# Altium integrated library Linear Technology Power Management Switching Regulator LTC1174-LTC3901.IntLib: 2647 symbols (part 157 of 364)
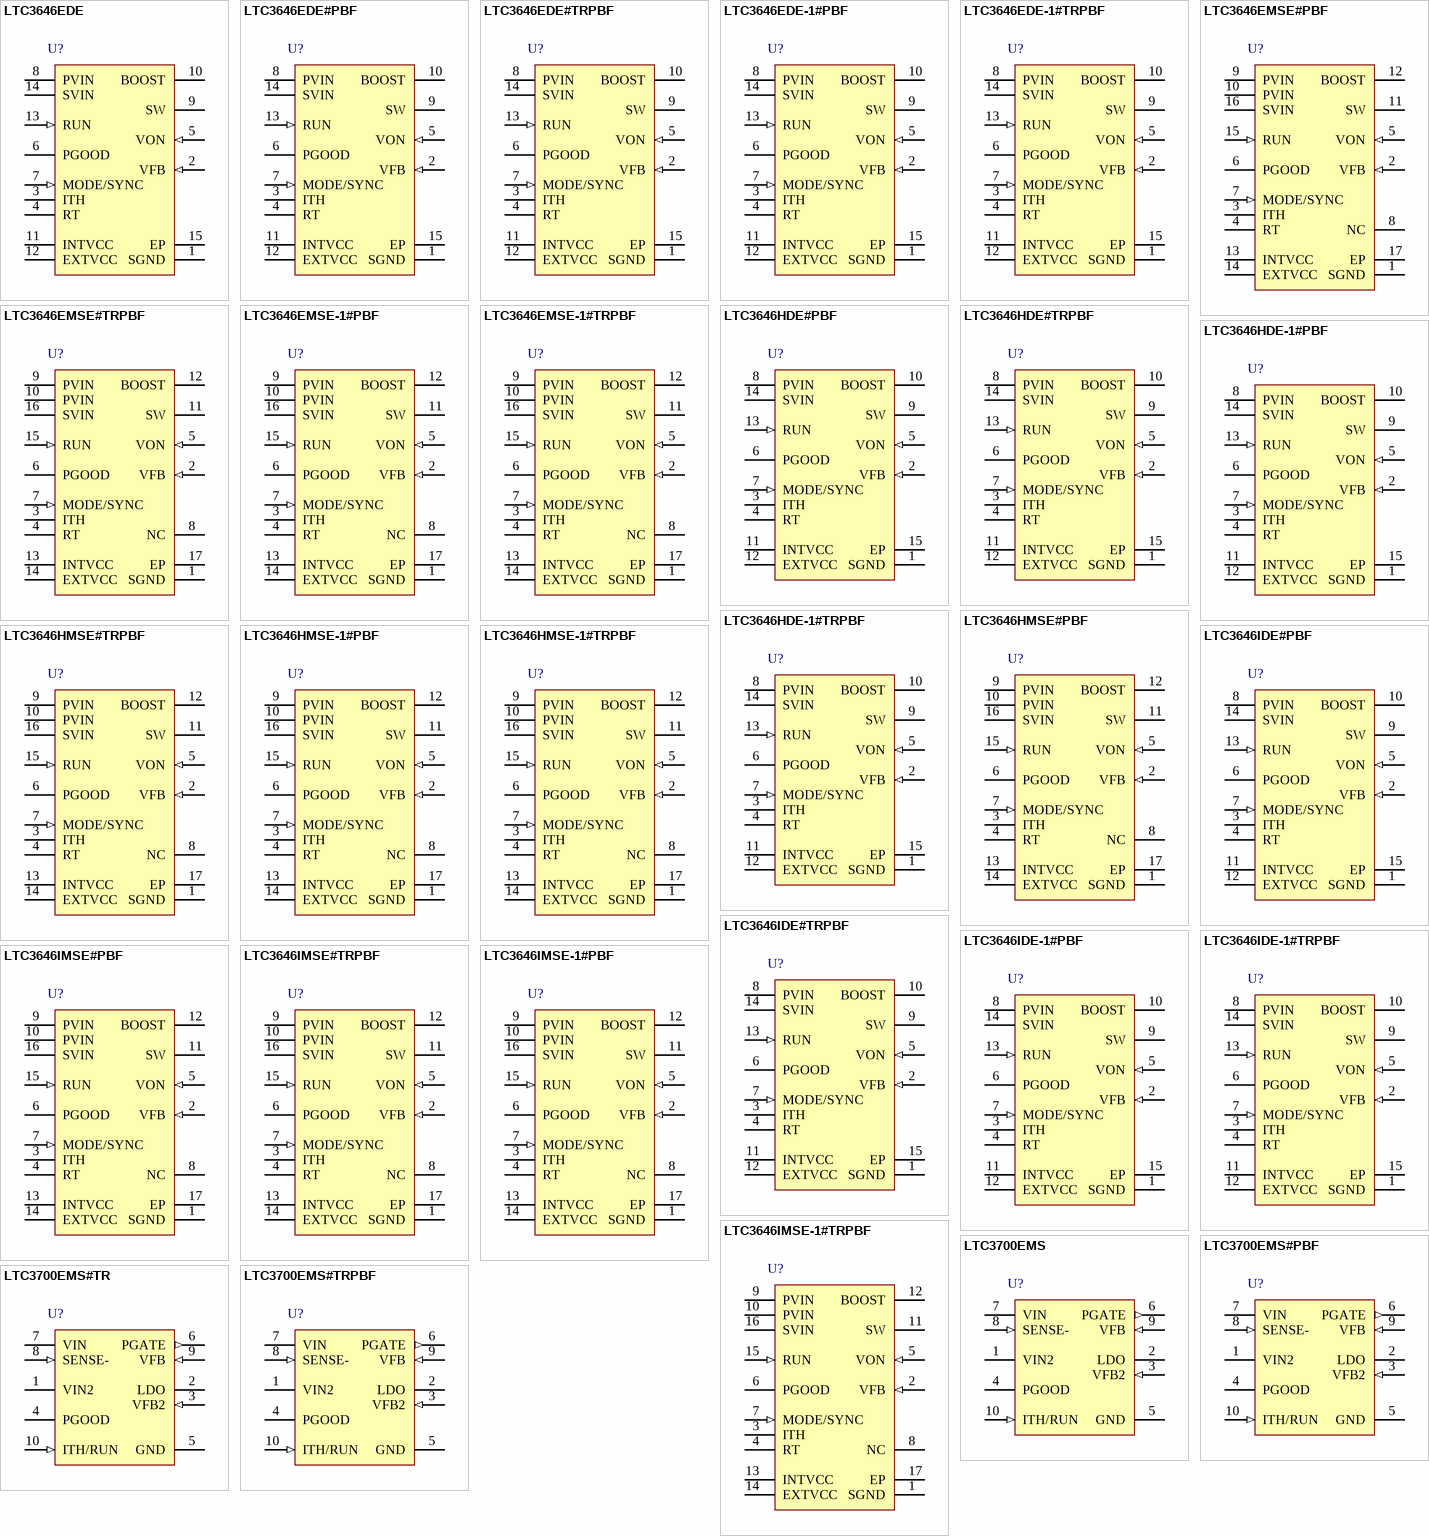
[diagram p195: symbols LTC3646EDE to LTC3700EMS#TRPBF]

## LTC3700EMS
designator U?
Controller with LDO, 10-pin SOP (MS-10), -40 to 85 degC; Manufacturer: Linear Technology; PartNumber: LTC3700EMS; Number of Outputs: 2; PackageVersion: Rev. E, 06/2010; PackageReference: MS-10; PackageDescription: 10-Pin Plastic MSOP, Body 3 x 3 mm, Pitch 0.5 mm; Supplier 1: Digi-Key; Supplier Part Number 1: LTC3700EMS-ND; RoHS: FALSE; Mounting Technology: Surface Mount; ComponentLink1Description: Manufacturer URL; ComponentLink1URL: http://www.linear.com/; ComponentLink2Description: Datasheet; ComponentLink2URL: http://cds.linear.com/docs/en/datasheet/3700f.pdf; ComponentLink3Description: Package Specification; ComponentLink3URL: http://cds.linear.com/docs/en/packaging/05081661_F_MS.pdf
footprint LT-MS-10_N (SOP, 10-Leads, Body 3.1x3.1mm, Pitch 0.5mm, IPC Medium Density)
footprint LT-MS-10_L (SOP, 10-Leads, Body 3.1x3.1mm, Pitch 0.5mm, IPC High Density)
footprint LT-MS-10_M (SOP, 10-Leads, Body 3.1x3.1mm, Pitch 0.5mm, IPC Low Density)
pins: 1 VIN2 (power) "LDO Input Supply Pin. Must be closely decoupled to GND (Pin 5).", 2 LDO (power) "LDO Output Pin. Must be closely decoupled to GND (Pin 5) with a low ESR ceramic capacitor >=2.2uF.", 3 VFB2 (in) "LDO Feedback Voltage. Receives the feedback voltage from an external resistor divider between LDO (Pin 2) and GND (Pin 5).", 4 PGOOD (hiz) "Open-Drain Power Good Output. This pin will pull to ground if either voltage output of the buck or the LDO [sensed at VFB (Pin 9) and VFB2 (Pin 3), respectively] is out of range. When both voltage outputs are valid, this pin (See Datasheet)", 5 GND (power) "Common Ground Pin for Both Buck and LDO.", 6 PGATE (out) "Gate Drive for Buck’s External P-Channel MOSFET. This pin swings from 0V to VIN.", 7 VIN (power) "Buck Input Supply Pin. Must be closely decoupled to GND (Pin 5).", 8 SENSE- (in) "The Negative Input to the Current Comparator of the Buck. Monitors switch current of external P-Channel MOSFET.", 9 VFB (in) "Buck Feedback Voltage. Receives the feedback voltage from an external resistor divider between buck output and GND (Pin 5).", 10 ITH/RUN (in)

## LTC3700EMS#PBF
designator U?
Controller with LDO, 10-pin SOP (MS-10), -40 to 85 degC, Pb-Free; Manufacturer: Linear Technology; PartNumber: LTC3700EMS#PBF; Number of Outputs: 2; PackageVersion: Rev. E, 06/2010; PackageReference: MS-10; PackageDescription: 10-Pin Plastic MSOP, Body 3 x 3 mm, Pitch 0.5 mm; Supplier 1: Digi-Key; Supplier Part Number 1: LTC3700EMS#PBF-ND; Supplier 2: Farnell; Supplier Part Number 2: 1273946; Supplier 3: Newark; Supplier Part Number 3: 56M8033; RoHS: TRUE; Mounting Technology: Surface Mount; ComponentLink1Description: Manufacturer URL; ComponentLink1URL: http://www.linear.com/; ComponentLink2Description: Datasheet; ComponentLink2URL: http://cds.linear.com/docs/en/datasheet/3700f.pdf; ComponentLink3Description: Package Specification; ComponentLink3URL: http://cds.linear.com/docs/en/packaging/05081661_F_MS.pdf
footprint LT-MS-10_N (SOP, 10-Leads, Body 3.1x3.1mm, Pitch 0.5mm, IPC Medium Density)
footprint LT-MS-10_L (SOP, 10-Leads, Body 3.1x3.1mm, Pitch 0.5mm, IPC High Density)
footprint LT-MS-10_M (SOP, 10-Leads, Body 3.1x3.1mm, Pitch 0.5mm, IPC Low Density)
pins: 1 VIN2 (power) "LDO Input Supply Pin. Must be closely decoupled to GND (Pin 5).", 2 LDO (power) "LDO Output Pin. Must be closely decoupled to GND (Pin 5) with a low ESR ceramic capacitor >=2.2uF.", 3 VFB2 (in) "LDO Feedback Voltage. Receives the feedback voltage from an external resistor divider between LDO (Pin 2) and GND (Pin 5).", 4 PGOOD (hiz) "Open-Drain Power Good Output. This pin will pull to ground if either voltage output of the buck or the LDO [sensed at VFB (Pin 9) and VFB2 (Pin 3), respectively] is out of range. When both voltage outputs are valid, this pin (See Datasheet)", 5 GND (power) "Common Ground Pin for Both Buck and LDO.", 6 PGATE (out) "Gate Drive for Buck’s External P-Channel MOSFET. This pin swings from 0V to VIN.", 7 VIN (power) "Buck Input Supply Pin. Must be closely decoupled to GND (Pin 5).", 8 SENSE- (in) "The Negative Input to the Current Comparator of the Buck. Monitors switch current of external P-Channel MOSFET.", 9 VFB (in) "Buck Feedback Voltage. Receives the feedback voltage from an external resistor divider between buck output and GND (Pin 5).", 10 ITH/RUN (in)

## LTC3700EMS#TR
designator U?
Controller with LDO, 10-pin SOP (MS-10), -40 to 85 degC, Tape and Reel; Manufacturer: Linear Technology; PartNumber: LTC3700EMS#TR; Number of Outputs: 2; PackageVersion: Rev. E, 06/2010; PackageReference: MS-10; PackageDescription: 10-Pin Plastic MSOP, Body 3 x 3 mm, Pitch 0.5 mm; Supplier 1: Digi-Key; Supplier Part Number 1: LTC3700EMSTR-ND; Packing: Tape and Reel; RoHS: FALSE; Mounting Technology: Surface Mount; ComponentLink1Description: Manufacturer URL; ComponentLink1URL: http://www.linear.com/; ComponentLink2Description: Datasheet; ComponentLink2URL: http://cds.linear.com/docs/en/datasheet/3700f.pdf; ComponentLink3Description: Package Specification; ComponentLink3URL: http://cds.linear.com/docs/en/packaging/05081661_F_MS.pdf
footprint LT-MS-10_N (SOP, 10-Leads, Body 3.1x3.1mm, Pitch 0.5mm, IPC Medium Density)
footprint LT-MS-10_L (SOP, 10-Leads, Body 3.1x3.1mm, Pitch 0.5mm, IPC High Density)
footprint LT-MS-10_M (SOP, 10-Leads, Body 3.1x3.1mm, Pitch 0.5mm, IPC Low Density)
pins: 1 VIN2 (power) "LDO Input Supply Pin. Must be closely decoupled to GND (Pin 5).", 2 LDO (power) "LDO Output Pin. Must be closely decoupled to GND (Pin 5) with a low ESR ceramic capacitor >=2.2uF.", 3 VFB2 (in) "LDO Feedback Voltage. Receives the feedback voltage from an external resistor divider between LDO (Pin 2) and GND (Pin 5).", 4 PGOOD (hiz) "Open-Drain Power Good Output. This pin will pull to ground if either voltage output of the buck or the LDO [sensed at VFB (Pin 9) and VFB2 (Pin 3), respectively] is out of range. When both voltage outputs are valid, this pin (See Datasheet)", 5 GND (power) "Common Ground Pin for Both Buck and LDO.", 6 PGATE (out) "Gate Drive for Buck’s External P-Channel MOSFET. This pin swings from 0V to VIN.", 7 VIN (power) "Buck Input Supply Pin. Must be closely decoupled to GND (Pin 5).", 8 SENSE- (in) "The Negative Input to the Current Comparator of the Buck. Monitors switch current of external P-Channel MOSFET.", 9 VFB (in) "Buck Feedback Voltage. Receives the feedback voltage from an external resistor divider between buck output and GND (Pin 5).", 10 ITH/RUN (in)

## LTC3700EMS#TRPBF
designator U?
Controller with LDO, 10-pin SOP (MS-10), -40 to 85 degC, Pb-Free, Tape and Reel; Manufacturer: Linear Technology; PartNumber: LTC3700EMS#TRPBF; Number of Outputs: 2; PackageVersion: Rev. E, 06/2010; PackageReference: MS-10; PackageDescription: 10-Pin Plastic MSOP, Body 3 x 3 mm, Pitch 0.5 mm; Supplier 1: Digi-Key; Supplier Part Number 1: LTC3700EMS#TRPBF-ND; Packing: Tape and Reel; RoHS: TRUE; Mounting Technology: Surface Mount; ComponentLink1Description: Manufacturer URL; ComponentLink1URL: http://www.linear.com/; ComponentLink2Description: Datasheet; ComponentLink2URL: http://cds.linear.com/docs/en/datasheet/3700f.pdf; ComponentLink3Description: Package Specification; ComponentLink3URL: http://cds.linear.com/docs/en/packaging/05081661_F_MS.pdf
footprint LT-MS-10_N (SOP, 10-Leads, Body 3.1x3.1mm, Pitch 0.5mm, IPC Medium Density)
footprint LT-MS-10_L (SOP, 10-Leads, Body 3.1x3.1mm, Pitch 0.5mm, IPC High Density)
footprint LT-MS-10_M (SOP, 10-Leads, Body 3.1x3.1mm, Pitch 0.5mm, IPC Low Density)
pins: 1 VIN2 (power) "LDO Input Supply Pin. Must be closely decoupled to GND (Pin 5).", 2 LDO (power) "LDO Output Pin. Must be closely decoupled to GND (Pin 5) with a low ESR ceramic capacitor >=2.2uF.", 3 VFB2 (in) "LDO Feedback Voltage. Receives the feedback voltage from an external resistor divider between LDO (Pin 2) and GND (Pin 5).", 4 PGOOD (hiz) "Open-Drain Power Good Output. This pin will pull to ground if either voltage output of the buck or the LDO [sensed at VFB (Pin 9) and VFB2 (Pin 3), respectively] is out of range. When both voltage outputs are valid, this pin (See Datasheet)", 5 GND (power) "Common Ground Pin for Both Buck and LDO.", 6 PGATE (out) "Gate Drive for Buck’s External P-Channel MOSFET. This pin swings from 0V to VIN.", 7 VIN (power) "Buck Input Supply Pin. Must be closely decoupled to GND (Pin 5).", 8 SENSE- (in) "The Negative Input to the Current Comparator of the Buck. Monitors switch current of external P-Channel MOSFET.", 9 VFB (in) "Buck Feedback Voltage. Receives the feedback voltage from an external resistor divider between buck output and GND (Pin 5).", 10 ITH/RUN (in)

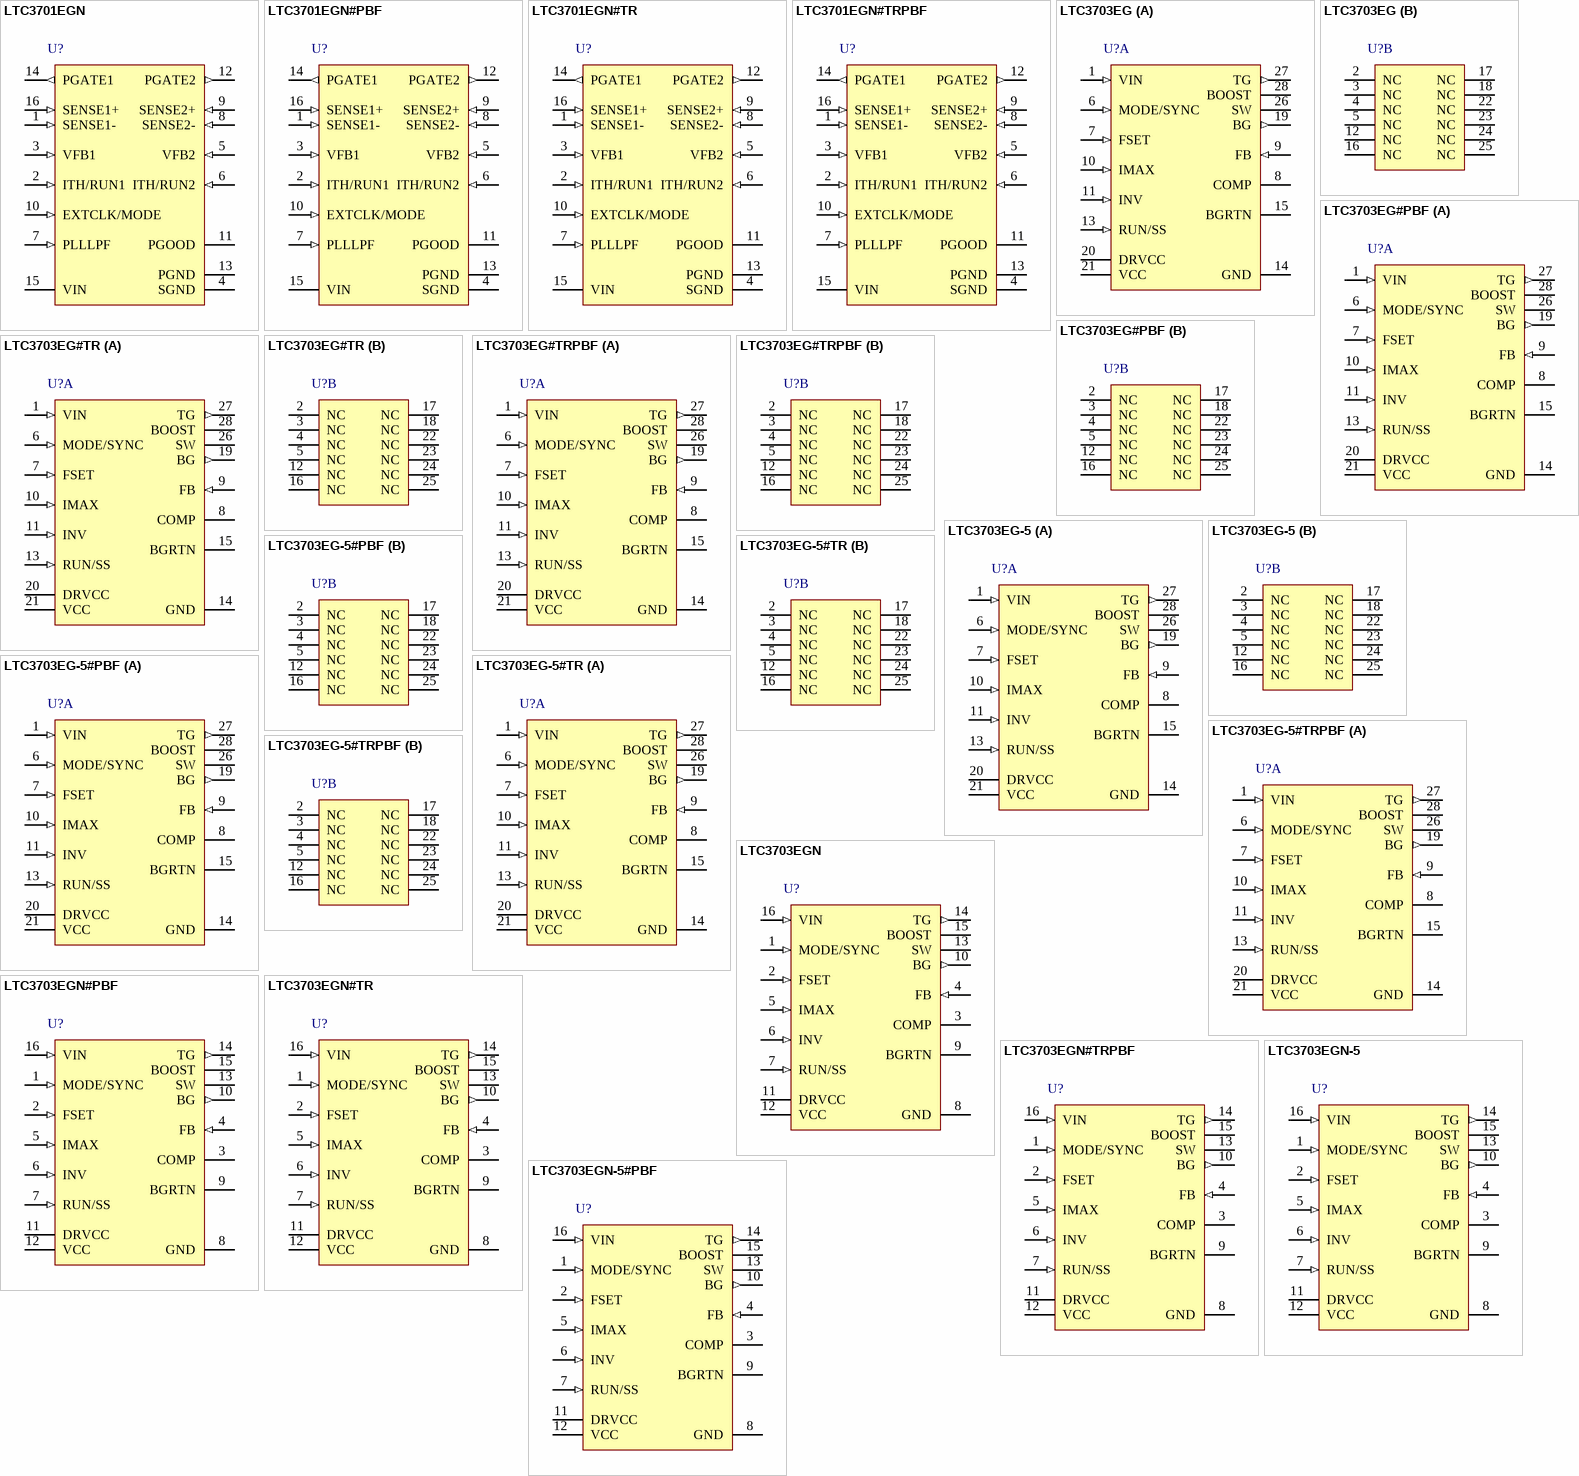
[diagram p50: symbols LTC3701EGN to LTC3703EGN-5#PBF]

## LTC3701EGN
designator U?
2-Phase, Low Input Voltage, Dual Step-Down DC/DC Controller, 16-pin SOP (GN-16), -40 to 85 degC; Manufacturer: Linear Technology; PartNumber: LTC3701EGN; Number of Outputs: 2; PackageVersion: Rev. B, 03/2012; PackageReference: GN-16; PackageDescription: 16-Pin Plastic SSOP, Body 4.9 x 3.9 mm, Pitch 0.635 mm; Supplier 1: Digi-Key; Supplier Part Number 1: LTC3701EGN-ND; Supplier 2: Newark; Supplier Part Number 2: 56M8036; RoHS: FALSE; Mounting Technology: Surface Mount; ComponentLink1Description: Manufacturer URL; ComponentLink1URL: http://www.linear.com/; ComponentLink2Description: Datasheet; ComponentLink2URL: http://cds.linear.com/docs/en/datasheet/3701fa.pdf; ComponentLink3Description: Package Specification; ComponentLink3URL: http://cds.linear.com/docs/en/packaging/05081641_B_GN16.pdf
footprint LT-GN-16_N (SOP, 16-Leads, Body 5x4mm, Pitch 0.635mm, IPC Medium Density)
footprint LT-GN-16_L (SOP, 16-Leads, Body 5x4mm, Pitch 0.635mm, IPC High Density)
footprint LT-GN-16_M (SOP, 16-Leads, Body 5x4mm, Pitch 0.635mm, IPC Low Density)
pins: 1 SENSE1- (in) "The (-) Inputs to the Differential Current Comparators.", 2 ITH/RUN1 (in) "These pins each serve two functions. Each pin serves as the error amplifier compensation point as well as the run control input for the respective controller. Forcing one pin below 0.35V causes the functions associated with (See Datasheet)", 3 VFB1 (in) "Each receives the remotely sensed feedback voltage for each controller from an external resistive divider across the output.", 4 SGND (power) "Signal Ground.", 5 VFB2 (in) "Each receives the remotely sensed feedback voltage for each controller from an external resistive divider across the output.", 6 ITH/RUN2 (in) "These pins each serve two functions. Each pin serves as the error amplifier compensation point as well as the run control input for the respective controller. Forcing one pin below 0.35V causes the functions associated with (See Datasheet)", 7 PLLLPF (in) "Serves as the lowpass filter point for the PLL and as the voltage control input to the internal oscillator. Normally, a series RC is connected between this pin and ground when synchronizing to an external clock. Nominal (See Datasheet)", 8 SENSE2- (in) "The (-) Inputs to the Differential Current Comparators.", 9 SENSE2+ (in) "The (+) Inputs to the Differential Current Comparators. These pins also power the gate drivers.", 10 EXTCLK/MODE (in) "External Clock Input. Applying a clock to this pin causes the internal oscillator to phaselock to the external clock (nominal lock frequency range between 300kHz and 750kHz). This also disables Burst Mode operation but (See Datasheet)", 11 PGOOD (oc) "Power Good Output Voltage Monitor Open-Drain Logic Output. This pin is pulled to ground when the voltage on either feedback pin (VFB1, VFB2) is not within +/-8% of its nominal set point. PGOOD is pulled low when channel 1 or (See Datasheet)", 12 PGATE2 (out) "Gate Drivers for the External P-Channel MOSFETs. These pins swing from 0 to SENSE+ (PVIN).", 13 PGND (power) "Ground Pin for Gate Drivers.", 14 PGATE1 (out) "Gate Drivers for the External P-Channel MOSFETs. These pins swing from 0 to SENSE+ (PVIN).", 15 VIN (power) "Chip Signal Power Supply Input. This pin powers the entire chip except for the gate drivers.", 16 SENSE1+ (in) "The (+) Inputs to the Differential Current Comparators. These pins also power the gate drivers."

## LTC3701EGN#PBF
designator U?
2-Phase, Low Input Voltage, Dual Step-Down DC/DC Controller, 16-pin SOP (GN-16), -40 to 85 degC, Pb-Free; Manufacturer: Linear Technology; PartNumber: LTC3701EGN#PBF; Number of Outputs: 2; PackageVersion: Rev. B, 03/2012; PackageReference: GN-16; PackageDescription: 16-Pin Plastic SSOP, Body 4.9 x 3.9 mm, Pitch 0.635 mm; Supplier 1: Digi-Key; Supplier Part Number 1: LTC3701EGN#PBF-ND; Supplier 2: Newark; Supplier Part Number 2: 56M8037; RoHS: TRUE; Mounting Technology: Surface Mount; ComponentLink1Description: Manufacturer URL; ComponentLink1URL: http://www.linear.com/; ComponentLink2Description: Datasheet; ComponentLink2URL: http://cds.linear.com/docs/en/datasheet/3701fa.pdf; ComponentLink3Description: Package Specification; ComponentLink3URL: http://cds.linear.com/docs/en/packaging/05081641_B_GN16.pdf
footprint LT-GN-16_N (SOP, 16-Leads, Body 5x4mm, Pitch 0.635mm, IPC Medium Density)
footprint LT-GN-16_L (SOP, 16-Leads, Body 5x4mm, Pitch 0.635mm, IPC High Density)
footprint LT-GN-16_M (SOP, 16-Leads, Body 5x4mm, Pitch 0.635mm, IPC Low Density)
pins: 1 SENSE1- (in) "The (-) Inputs to the Differential Current Comparators.", 2 ITH/RUN1 (in) "These pins each serve two functions. Each pin serves as the error amplifier compensation point as well as the run control input for the respective controller. Forcing one pin below 0.35V causes the functions associated with (See Datasheet)", 3 VFB1 (in) "Each receives the remotely sensed feedback voltage for each controller from an external resistive divider across the output.", 4 SGND (power) "Signal Ground.", 5 VFB2 (in) "Each receives the remotely sensed feedback voltage for each controller from an external resistive divider across the output.", 6 ITH/RUN2 (in) "These pins each serve two functions. Each pin serves as the error amplifier compensation point as well as the run control input for the respective controller. Forcing one pin below 0.35V causes the functions associated with (See Datasheet)", 7 PLLLPF (in) "Serves as the lowpass filter point for the PLL and as the voltage control input to the internal oscillator. Normally, a series RC is connected between this pin and ground when synchronizing to an external clock. Nominal (See Datasheet)", 8 SENSE2- (in) "The (-) Inputs to the Differential Current Comparators.", 9 SENSE2+ (in) "The (+) Inputs to the Differential Current Comparators. These pins also power the gate drivers.", 10 EXTCLK/MODE (in) "External Clock Input. Applying a clock to this pin causes the internal oscillator to phaselock to the external clock (nominal lock frequency range between 300kHz and 750kHz). This also disables Burst Mode operation but (See Datasheet)", 11 PGOOD (oc) "Power Good Output Voltage Monitor Open-Drain Logic Output. This pin is pulled to ground when the voltage on either feedback pin (VFB1, VFB2) is not within +/-8% of its nominal set point. PGOOD is pulled low when channel 1 or (See Datasheet)", 12 PGATE2 (out) "Gate Drivers for the External P-Channel MOSFETs. These pins swing from 0 to SENSE+ (PVIN).", 13 PGND (power) "Ground Pin for Gate Drivers.", 14 PGATE1 (out) "Gate Drivers for the External P-Channel MOSFETs. These pins swing from 0 to SENSE+ (PVIN).", 15 VIN (power) "Chip Signal Power Supply Input. This pin powers the entire chip except for the gate drivers.", 16 SENSE1+ (in) "The (+) Inputs to the Differential Current Comparators. These pins also power the gate drivers."

## LTC3701EGN#TR
designator U?
2-Phase, Low Input Voltage, Dual Step-Down DC/DC Controller, 16-pin SOP (GN-16), -40 to 85 degC, Tape and Reel; Manufacturer: Linear Technology; PartNumber: LTC3701EGN#TR; Number of Outputs: 2; PackageVersion: Rev. B, 03/2012; PackageReference: GN-16; PackageDescription: 16-Pin Plastic SSOP, Body 4.9 x 3.9 mm, Pitch 0.635 mm; Supplier 1: Digi-Key; Supplier Part Number 1: LTC3701EGNTR-ND; Packing: Tape and Reel; RoHS: FALSE; Mounting Technology: Surface Mount; ComponentLink1Description: Manufacturer URL; ComponentLink1URL: http://www.linear.com/; ComponentLink2Description: Datasheet; ComponentLink2URL: http://cds.linear.com/docs/en/datasheet/3701fa.pdf; ComponentLink3Description: Package Specification; ComponentLink3URL: http://cds.linear.com/docs/en/packaging/05081641_B_GN16.pdf
footprint LT-GN-16_N (SOP, 16-Leads, Body 5x4mm, Pitch 0.635mm, IPC Medium Density)
footprint LT-GN-16_L (SOP, 16-Leads, Body 5x4mm, Pitch 0.635mm, IPC High Density)
footprint LT-GN-16_M (SOP, 16-Leads, Body 5x4mm, Pitch 0.635mm, IPC Low Density)
pins: 1 SENSE1- (in) "The (-) Inputs to the Differential Current Comparators.", 2 ITH/RUN1 (in) "These pins each serve two functions. Each pin serves as the error amplifier compensation point as well as the run control input for the respective controller. Forcing one pin below 0.35V causes the functions associated with (See Datasheet)", 3 VFB1 (in) "Each receives the remotely sensed feedback voltage for each controller from an external resistive divider across the output.", 4 SGND (power) "Signal Ground.", 5 VFB2 (in) "Each receives the remotely sensed feedback voltage for each controller from an external resistive divider across the output.", 6 ITH/RUN2 (in) "These pins each serve two functions. Each pin serves as the error amplifier compensation point as well as the run control input for the respective controller. Forcing one pin below 0.35V causes the functions associated with (See Datasheet)", 7 PLLLPF (in) "Serves as the lowpass filter point for the PLL and as the voltage control input to the internal oscillator. Normally, a series RC is connected between this pin and ground when synchronizing to an external clock. Nominal (See Datasheet)", 8 SENSE2- (in) "The (-) Inputs to the Differential Current Comparators.", 9 SENSE2+ (in) "The (+) Inputs to the Differential Current Comparators. These pins also power the gate drivers.", 10 EXTCLK/MODE (in) "External Clock Input. Applying a clock to this pin causes the internal oscillator to phaselock to the external clock (nominal lock frequency range between 300kHz and 750kHz). This also disables Burst Mode operation but (See Datasheet)", 11 PGOOD (oc) "Power Good Output Voltage Monitor Open-Drain Logic Output. This pin is pulled to ground when the voltage on either feedback pin (VFB1, VFB2) is not within +/-8% of its nominal set point. PGOOD is pulled low when channel 1 or (See Datasheet)", 12 PGATE2 (out) "Gate Drivers for the External P-Channel MOSFETs. These pins swing from 0 to SENSE+ (PVIN).", 13 PGND (power) "Ground Pin for Gate Drivers.", 14 PGATE1 (out) "Gate Drivers for the External P-Channel MOSFETs. These pins swing from 0 to SENSE+ (PVIN).", 15 VIN (power) "Chip Signal Power Supply Input. This pin powers the entire chip except for the gate drivers.", 16 SENSE1+ (in) "The (+) Inputs to the Differential Current Comparators. These pins also power the gate drivers."

## LTC3701EGN#TRPBF
designator U?
2-Phase, Low Input Voltage, Dual Step-Down DC/DC Controller, 16-pin SOP (GN-16), -40 to 85 degC, Pb-Free, Tape and Reel; Manufacturer: Linear Technology; PartNumber: LTC3701EGN#TRPBF; Number of Outputs: 2; PackageVersion: Rev. B, 03/2012; PackageReference: GN-16; PackageDescription: 16-Pin Plastic SSOP, Body 4.9 x 3.9 mm, Pitch 0.635 mm; Supplier 1: Digi-Key; Supplier Part Number 1: LTC3701EGN#TRPBF-ND; Supplier 2: Newark; Supplier Part Number 2: 56M8039; Packing: Tape and Reel; RoHS: TRUE; Mounting Technology: Surface Mount; ComponentLink1Description: Manufacturer URL; ComponentLink1URL: http://www.linear.com/; ComponentLink2Description: Datasheet; ComponentLink2URL: http://cds.linear.com/docs/en/datasheet/3701fa.pdf; ComponentLink3Description: Package Specification; ComponentLink3URL: http://cds.linear.com/docs/en/packaging/05081641_B_GN16.pdf
footprint LT-GN-16_N (SOP, 16-Leads, Body 5x4mm, Pitch 0.635mm, IPC Medium Density)
footprint LT-GN-16_L (SOP, 16-Leads, Body 5x4mm, Pitch 0.635mm, IPC High Density)
footprint LT-GN-16_M (SOP, 16-Leads, Body 5x4mm, Pitch 0.635mm, IPC Low Density)
pins: 1 SENSE1- (in) "The (-) Inputs to the Differential Current Comparators.", 2 ITH/RUN1 (in) "These pins each serve two functions. Each pin serves as the error amplifier compensation point as well as the run control input for the respective controller. Forcing one pin below 0.35V causes the functions associated with (See Datasheet)", 3 VFB1 (in) "Each receives the remotely sensed feedback voltage for each controller from an external resistive divider across the output.", 4 SGND (power) "Signal Ground.", 5 VFB2 (in) "Each receives the remotely sensed feedback voltage for each controller from an external resistive divider across the output.", 6 ITH/RUN2 (in) "These pins each serve two functions. Each pin serves as the error amplifier compensation point as well as the run control input for the respective controller. Forcing one pin below 0.35V causes the functions associated with (See Datasheet)", 7 PLLLPF (in) "Serves as the lowpass filter point for the PLL and as the voltage control input to the internal oscillator. Normally, a series RC is connected between this pin and ground when synchronizing to an external clock. Nominal (See Datasheet)", 8 SENSE2- (in) "The (-) Inputs to the Differential Current Comparators.", 9 SENSE2+ (in) "The (+) Inputs to the Differential Current Comparators. These pins also power the gate drivers.", 10 EXTCLK/MODE (in) "External Clock Input. Applying a clock to this pin causes the internal oscillator to phaselock to the external clock (nominal lock frequency range between 300kHz and 750kHz). This also disables Burst Mode operation but (See Datasheet)", 11 PGOOD (oc) "Power Good Output Voltage Monitor Open-Drain Logic Output. This pin is pulled to ground when the voltage on either feedback pin (VFB1, VFB2) is not within +/-8% of its nominal set point. PGOOD is pulled low when channel 1 or (See Datasheet)", 12 PGATE2 (out) "Gate Drivers for the External P-Channel MOSFETs. These pins swing from 0 to SENSE+ (PVIN).", 13 PGND (power) "Ground Pin for Gate Drivers.", 14 PGATE1 (out) "Gate Drivers for the External P-Channel MOSFETs. These pins swing from 0 to SENSE+ (PVIN).", 15 VIN (power) "Chip Signal Power Supply Input. This pin powers the entire chip except for the gate drivers.", 16 SENSE1+ (in) "The (+) Inputs to the Differential Current Comparators. These pins also power the gate drivers."

## LTC3703EG
designator U?
Synchronous Switching Regulator Controller, 28-pin SOP (G-28), -40 to 85 degC; Manufacturer: Linear Technology; PartNumber: LTC3703EG; Frequency Sync Range: Up to 600kHz; Number of Outputs: 1; DatasheetVersion: Rev. C; PackageVersion: Jun-10; PackageReference: G-28; PackageDescription: 28-Pin Plastic SSOP, Body 10.2 x 5.3 mm, Pitch 0.65 mm; Supplier 1: Digi-Key; Supplier Part Number 1: LTC3703EG-ND; RoHS: FALSE; Mounting Technology: Surface Mount; ComponentLink1Description: Manufacturer URL; ComponentLink1URL: http://www.linear.com/; ComponentLink2Description: Datasheet; ComponentLink2URL: http://cds.linear.com/docs/en/datasheet/3703fc.pdf; ComponentLink3Description: Package Specification; ComponentLink3URL: http://cds.linear.com/docs/en/packaging/SSOP_28_05-08-1640.pdf
footprint LT-G-28_N (SOP, 28-Leads, Body 10.2x5.3mm, Pitch 0.65mm, IPC Medium Density)
footprint LT-G-28_L (SOP, 28-Leads, Body 10.2x5.3mm, Pitch 0.65mm, IPC High Density)
footprint LT-G-28_M (SOP, 28-Leads, Body 10.2x5.3mm, Pitch 0.65mm, IPC Low Density)
part A pins: 1 VIN (in) "Input Voltage Sense Pin. This pin is connected to the high voltage input of the regulator and is used by the internal feedforward compensation circuitry to improve line regulation. This is not a supply pin.", 6 MODE/SYNC (in) "Pulse Skip Mode Enable/Sync Pin. This multifunction pin provides Pulse Skip Mode enable/ disable control and an external clock input for synchronization of the internal oscillator. Pulling this pin below 0.8V or to an (See Datasheet)", 7 FSET (in) "Frequency Set. A resistor connected to this pin sets the free running frequency of the internal oscillator.", 8 COMP "Loop Compensation. This pin is connected directly to the output of the internal error amplifier. An RC network is used at the COMP pin to compensate the feedback loop for optimal transient response.", 9 FB (in) "Feedback Input. Connect FB through a resistor divider network to VOUT to set the output voltage. Also connect the loop compensation network from COMP to FB.", 10 IMAX (in) "Current Limit Set. The IMAX pin sets the current limit comparator threshold. If the voltage drop across the bottom MOSFET exceeds the magnitude of the voltage at IMAX, the controller goes into current limit. The IMAX pin has (See Datasheet)", 11 INV (in) "Top/Bottom Gate Invert. Pulling this pin above 2V sets the controller to operate in step-up (boost) mode with the TG output driving the synchronous MOSFET and the BG output driving the main switch. Below 1V, the controller (See Datasheet)", 13 RUN/SS (in) "Run/Soft-Start.", 14 GND (power) "Ground Pin.", 15 BGRTN "Bottom Gate Return. This pin connects to the source of the pull-down MOSFET in the BG driver and is normally connected to ground. Connecting a negative supply to this pin allows the synchronous MOSFET’s gate to be pulle(See Datasheet)", 19 BG (out) "Bottom Gate Drive. The BG pin drives the gate of the bottom N-channel synchronous switch MOSFET. This pin swings from BGRTN to DRVCC.", 20 DRVCC (power) "Driver Power Supply Pin. DRVCC provides power to the BG output driver. This pin should be connected to a voltage high enough to fully turn on the external MOSFETs, normally 4.5V to 15V for logic level threshold MOSFETs. (See Datasheet)", 21 VCC (power) "Main Supply Pin. All internal circuits except the output drivers are powered from this pin.", 26 SW "Switch Node Connection to Inductor and Bootstrap Capacitor. Voltage swing at this pin is from a Schottky diode (external) voltage drop below ground to VIN.", 27 TG (out) "Top Gate Drive. The TG pin drives the gate of the top N-channel synchronous switch MOSFET. The TG driver draws power from the BOOST pin and returns to the SW pin, providing true floating drive to the top MOSFET.", 28 BOOST "Top Gate Driver Supply. The BOOST pin supplies power to the floating TG driver. The BOOST pin should be bypassed to SW with a low ESR (X5R or better) 0.1uF ceramic capacitor. An additional fast recovery Schottky diode from (See Datasheet)"
part B pins: 2 NC, 3 NC, 4 NC, 5 NC, 12 NC, 16 NC, 17 NC, 18 NC, 22 NC, 23 NC, 24 NC, 25 NC

## LTC3703EG#PBF
designator U?
Synchronous Switching Regulator Controller, 28-pin SOP (G-28), -40 to 85 degC, Pb-Free; Manufacturer: Linear Technology; PartNumber: LTC3703EG#PBF; Frequency Sync Range: Up to 600kHz; Number of Outputs: 1; DatasheetVersion: Rev. C; PackageVersion: Jun-10; PackageReference: G-28; PackageDescription: 28-Pin Plastic SSOP, Body 10.2 x 5.3 mm, Pitch 0.65 mm; Supplier 1: Digi-Key; Supplier Part Number 1: LTC3703EG#PBF-ND; Supplier 2: Farnell; Supplier Part Number 2: 1273947; Supplier 3: Newark; Supplier Part Number 3: 56M8045; RoHS: TRUE; Mounting Technology: Surface Mount; ComponentLink1Description: Manufacturer URL; ComponentLink1URL: http://www.linear.com/; ComponentLink2Description: Datasheet; ComponentLink2URL: http://cds.linear.com/docs/en/datasheet/3703fc.pdf; ComponentLink3Description: Package Specification; ComponentLink3URL: http://cds.linear.com/docs/en/packaging/SSOP_28_05-08-1640.pdf
footprint LT-G-28_N (SOP, 28-Leads, Body 10.2x5.3mm, Pitch 0.65mm, IPC Medium Density)
footprint LT-G-28_L (SOP, 28-Leads, Body 10.2x5.3mm, Pitch 0.65mm, IPC High Density)
footprint LT-G-28_M (SOP, 28-Leads, Body 10.2x5.3mm, Pitch 0.65mm, IPC Low Density)
part A pins: 1 VIN (in) "Input Voltage Sense Pin. This pin is connected to the high voltage input of the regulator and is used by the internal feedforward compensation circuitry to improve line regulation. This is not a supply pin.", 6 MODE/SYNC (in) "Pulse Skip Mode Enable/Sync Pin. This multifunction pin provides Pulse Skip Mode enable/ disable control and an external clock input for synchronization of the internal oscillator. Pulling this pin below 0.8V or to an (See Datasheet)", 7 FSET (in) "Frequency Set. A resistor connected to this pin sets the free running frequency of the internal oscillator.", 8 COMP "Loop Compensation. This pin is connected directly to the output of the internal error amplifier. An RC network is used at the COMP pin to compensate the feedback loop for optimal transient response.", 9 FB (in) "Feedback Input. Connect FB through a resistor divider network to VOUT to set the output voltage. Also connect the loop compensation network from COMP to FB.", 10 IMAX (in) "Current Limit Set. The IMAX pin sets the current limit comparator threshold. If the voltage drop across the bottom MOSFET exceeds the magnitude of the voltage at IMAX, the controller goes into current limit. The IMAX pin has (See Datasheet)", 11 INV (in) "Top/Bottom Gate Invert. Pulling this pin above 2V sets the controller to operate in step-up (boost) mode with the TG output driving the synchronous MOSFET and the BG output driving the main switch. Below 1V, the controller (See Datasheet)", 13 RUN/SS (in) "Run/Soft-Start.", 14 GND (power) "Ground Pin.", 15 BGRTN "Bottom Gate Return. This pin connects to the source of the pull-down MOSFET in the BG driver and is normally connected to ground. Connecting a negative supply to this pin allows the synchronous MOSFET’s gate to be pulle(See Datasheet)", 19 BG (out) "Bottom Gate Drive. The BG pin drives the gate of the bottom N-channel synchronous switch MOSFET. This pin swings from BGRTN to DRVCC.", 20 DRVCC (power) "Driver Power Supply Pin. DRVCC provides power to the BG output driver. This pin should be connected to a voltage high enough to fully turn on the external MOSFETs, normally 4.5V to 15V for logic level threshold MOSFETs. (See Datasheet)", 21 VCC (power) "Main Supply Pin. All internal circuits except the output drivers are powered from this pin.", 26 SW "Switch Node Connection to Inductor and Bootstrap Capacitor. Voltage swing at this pin is from a Schottky diode (external) voltage drop below ground to VIN.", 27 TG (out) "Top Gate Drive. The TG pin drives the gate of the top N-channel synchronous switch MOSFET. The TG driver draws power from the BOOST pin and returns to the SW pin, providing true floating drive to the top MOSFET.", 28 BOOST "Top Gate Driver Supply. The BOOST pin supplies power to the floating TG driver. The BOOST pin should be bypassed to SW with a low ESR (X5R or better) 0.1uF ceramic capacitor. An additional fast recovery Schottky diode from (See Datasheet)"
part B pins: 2 NC, 3 NC, 4 NC, 5 NC, 12 NC, 16 NC, 17 NC, 18 NC, 22 NC, 23 NC, 24 NC, 25 NC

## LTC3703EG#TR
designator U?
Synchronous Switching Regulator Controller, 28-pin SOP (G-28), -40 to 85 degC, Tape and Reel; Manufacturer: Linear Technology; PartNumber: LTC3703EG#TR; Frequency Sync Range: Up to 600kHz; Number of Outputs: 1; DatasheetVersion: Rev. C; PackageVersion: Jun-10; PackageReference: G-28; PackageDescription: 28-Pin Plastic SSOP, Body 10.2 x 5.3 mm, Pitch 0.65 mm; Supplier 1: Digi-Key; Supplier Part Number 1: LTC3703EG#TR-ND; Packing: Tape and Reel; RoHS: FALSE; Mounting Technology: Surface Mount; ComponentLink1Description: Manufacturer URL; ComponentLink1URL: http://www.linear.com/; ComponentLink2Description: Datasheet; ComponentLink2URL: http://cds.linear.com/docs/en/datasheet/3703fc.pdf; ComponentLink3Description: Package Specification; ComponentLink3URL: http://cds.linear.com/docs/en/packaging/SSOP_28_05-08-1640.pdf
footprint LT-G-28_N (SOP, 28-Leads, Body 10.2x5.3mm, Pitch 0.65mm, IPC Medium Density)
footprint LT-G-28_L (SOP, 28-Leads, Body 10.2x5.3mm, Pitch 0.65mm, IPC High Density)
footprint LT-G-28_M (SOP, 28-Leads, Body 10.2x5.3mm, Pitch 0.65mm, IPC Low Density)
part A pins: 1 VIN (in) "Input Voltage Sense Pin. This pin is connected to the high voltage input of the regulator and is used by the internal feedforward compensation circuitry to improve line regulation. This is not a supply pin.", 6 MODE/SYNC (in) "Pulse Skip Mode Enable/Sync Pin. This multifunction pin provides Pulse Skip Mode enable/ disable control and an external clock input for synchronization of the internal oscillator. Pulling this pin below 0.8V or to an (See Datasheet)", 7 FSET (in) "Frequency Set. A resistor connected to this pin sets the free running frequency of the internal oscillator.", 8 COMP "Loop Compensation. This pin is connected directly to the output of the internal error amplifier. An RC network is used at the COMP pin to compensate the feedback loop for optimal transient response.", 9 FB (in) "Feedback Input. Connect FB through a resistor divider network to VOUT to set the output voltage. Also connect the loop compensation network from COMP to FB.", 10 IMAX (in) "Current Limit Set. The IMAX pin sets the current limit comparator threshold. If the voltage drop across the bottom MOSFET exceeds the magnitude of the voltage at IMAX, the controller goes into current limit. The IMAX pin has (See Datasheet)", 11 INV (in) "Top/Bottom Gate Invert. Pulling this pin above 2V sets the controller to operate in step-up (boost) mode with the TG output driving the synchronous MOSFET and the BG output driving the main switch. Below 1V, the controller (See Datasheet)", 13 RUN/SS (in) "Run/Soft-Start.", 14 GND (power) "Ground Pin.", 15 BGRTN "Bottom Gate Return. This pin connects to the source of the pull-down MOSFET in the BG driver and is normally connected to ground. Connecting a negative supply to this pin allows the synchronous MOSFET’s gate to be pulle(See Datasheet)", 19 BG (out) "Bottom Gate Drive. The BG pin drives the gate of the bottom N-channel synchronous switch MOSFET. This pin swings from BGRTN to DRVCC.", 20 DRVCC (power) "Driver Power Supply Pin. DRVCC provides power to the BG output driver. This pin should be connected to a voltage high enough to fully turn on the external MOSFETs, normally 4.5V to 15V for logic level threshold MOSFETs. (See Datasheet)", 21 VCC (power) "Main Supply Pin. All internal circuits except the output drivers are powered from this pin.", 26 SW "Switch Node Connection to Inductor and Bootstrap Capacitor. Voltage swing at this pin is from a Schottky diode (external) voltage drop below ground to VIN.", 27 TG (out) "Top Gate Drive. The TG pin drives the gate of the top N-channel synchronous switch MOSFET. The TG driver draws power from the BOOST pin and returns to the SW pin, providing true floating drive to the top MOSFET.", 28 BOOST "Top Gate Driver Supply. The BOOST pin supplies power to the floating TG driver. The BOOST pin should be bypassed to SW with a low ESR (X5R or better) 0.1uF ceramic capacitor. An additional fast recovery Schottky diode from (See Datasheet)"
part B pins: 2 NC, 3 NC, 4 NC, 5 NC, 12 NC, 16 NC, 17 NC, 18 NC, 22 NC, 23 NC, 24 NC, 25 NC

## LTC3703EG#TRPBF
designator U?
Synchronous Switching Regulator Controller, 28-pin SOP (G-28), -40 to 85 degC, Pb-Free, Tape and Reel; Manufacturer: Linear Technology; PartNumber: LTC3703EG#TRPBF; Frequency Sync Range: Up to 600kHz; Number of Outputs: 1; DatasheetVersion: Rev. C; PackageVersion: Jun-10; PackageReference: G-28; PackageDescription: 28-Pin Plastic SSOP, Body 10.2 x 5.3 mm, Pitch 0.65 mm; Supplier 1: Digi-Key; Supplier Part Number 1: LTC3703EG#TRPBF-ND; Packing: Tape and Reel; RoHS: TRUE; Mounting Technology: Surface Mount; ComponentLink1Description: Manufacturer URL; ComponentLink1URL: http://www.linear.com/; ComponentLink2Description: Datasheet; ComponentLink2URL: http://cds.linear.com/docs/en/datasheet/3703fc.pdf; ComponentLink3Description: Package Specification; ComponentLink3URL: http://cds.linear.com/docs/en/packaging/SSOP_28_05-08-1640.pdf
footprint LT-G-28_N (SOP, 28-Leads, Body 10.2x5.3mm, Pitch 0.65mm, IPC Medium Density)
footprint LT-G-28_L (SOP, 28-Leads, Body 10.2x5.3mm, Pitch 0.65mm, IPC High Density)
footprint LT-G-28_M (SOP, 28-Leads, Body 10.2x5.3mm, Pitch 0.65mm, IPC Low Density)
part A pins: 1 VIN (in) "Input Voltage Sense Pin. This pin is connected to the high voltage input of the regulator and is used by the internal feedforward compensation circuitry to improve line regulation. This is not a supply pin.", 6 MODE/SYNC (in) "Pulse Skip Mode Enable/Sync Pin. This multifunction pin provides Pulse Skip Mode enable/ disable control and an external clock input for synchronization of the internal oscillator. Pulling this pin below 0.8V or to an (See Datasheet)", 7 FSET (in) "Frequency Set. A resistor connected to this pin sets the free running frequency of the internal oscillator.", 8 COMP "Loop Compensation. This pin is connected directly to the output of the internal error amplifier. An RC network is used at the COMP pin to compensate the feedback loop for optimal transient response.", 9 FB (in) "Feedback Input. Connect FB through a resistor divider network to VOUT to set the output voltage. Also connect the loop compensation network from COMP to FB.", 10 IMAX (in) "Current Limit Set. The IMAX pin sets the current limit comparator threshold. If the voltage drop across the bottom MOSFET exceeds the magnitude of the voltage at IMAX, the controller goes into current limit. The IMAX pin has (See Datasheet)", 11 INV (in) "Top/Bottom Gate Invert. Pulling this pin above 2V sets the controller to operate in step-up (boost) mode with the TG output driving the synchronous MOSFET and the BG output driving the main switch. Below 1V, the controller (See Datasheet)", 13 RUN/SS (in) "Run/Soft-Start.", 14 GND (power) "Ground Pin.", 15 BGRTN "Bottom Gate Return. This pin connects to the source of the pull-down MOSFET in the BG driver and is normally connected to ground. Connecting a negative supply to this pin allows the synchronous MOSFET’s gate to be pulle(See Datasheet)", 19 BG (out) "Bottom Gate Drive. The BG pin drives the gate of the bottom N-channel synchronous switch MOSFET. This pin swings from BGRTN to DRVCC.", 20 DRVCC (power) "Driver Power Supply Pin. DRVCC provides power to the BG output driver. This pin should be connected to a voltage high enough to fully turn on the external MOSFETs, normally 4.5V to 15V for logic level threshold MOSFETs. (See Datasheet)", 21 VCC (power) "Main Supply Pin. All internal circuits except the output drivers are powered from this pin.", 26 SW "Switch Node Connection to Inductor and Bootstrap Capacitor. Voltage swing at this pin is from a Schottky diode (external) voltage drop below ground to VIN.", 27 TG (out) "Top Gate Drive. The TG pin drives the gate of the top N-channel synchronous switch MOSFET. The TG driver draws power from the BOOST pin and returns to the SW pin, providing true floating drive to the top MOSFET.", 28 BOOST "Top Gate Driver Supply. The BOOST pin supplies power to the floating TG driver. The BOOST pin should be bypassed to SW with a low ESR (X5R or better) 0.1uF ceramic capacitor. An additional fast recovery Schottky diode from (See Datasheet)"
part B pins: 2 NC, 3 NC, 4 NC, 5 NC, 12 NC, 16 NC, 17 NC, 18 NC, 22 NC, 23 NC, 24 NC, 25 NC

## LTC3703EG-5
designator U?
Synchronous Switching Regulator Controller, 28-pin SOP (G-28), -40 to 85 degC; Manufacturer: Linear Technology; PartNumber: LTC3703EG-5; Frequency Sync Range: Up to 600kHz; Number of Outputs: 1; DatasheetVersion: Rev. A; PackageVersion: Jun-10; PackageReference: G-28; PackageDescription: 28-Pin Plastic SSOP, Body 10.2 x 5.3 mm, Pitch 0.65 mm; Supplier 1: Digi-Key; Supplier Part Number 1: LTC3703EG-5-ND; RoHS: FALSE; Mounting Technology: Surface Mount; ComponentLink1Description: Manufacturer URL; ComponentLink1URL: http://www.linear.com/; ComponentLink2Description: Datasheet; ComponentLink2URL: http://cds.linear.com/docs/en/datasheet/37035fa.pdf; ComponentLink3Description: Package Specification; ComponentLink3URL: http://cds.linear.com/docs/en/packaging/SSOP_28_05-08-1640.pdf
footprint LT-G-28_N (SOP, 28-Leads, Body 10.2x5.3mm, Pitch 0.65mm, IPC Medium Density)
footprint LT-G-28_L (SOP, 28-Leads, Body 10.2x5.3mm, Pitch 0.65mm, IPC High Density)
footprint LT-G-28_M (SOP, 28-Leads, Body 10.2x5.3mm, Pitch 0.65mm, IPC Low Density)
part A pins: 1 VIN (in) "Input Voltage Sense Pin. This pin is connected to the high voltage input of the regulator and is used by the internal feedforward compensation circuitry to improve line regulation. This is not a supply pin.", 6 MODE/SYNC (in) "Pulse Skip Mode Enable/Sync Pin. This multifunction pin provides Pulse Skip Mode enable/ disable control and an external clock input for synchronization of the internal oscillator. Pulling this pin below 0.8V or to an (See Datasheet)", 7 FSET (in) "Frequency Set. A resistor connected to this pin sets the free running frequency of the internal oscillator.", 8 COMP "Loop Compensation. This pin is connected directly to the output of the internal error amplifier. An RC network is used at the COMP pin to compensate the feedback loop for optimal transient response.", 9 FB (in) "Feedback Input. Connect FB through a resistor divider network to VOUT to set the output voltage. Also connect the loop compensation network from COMP to FB.", 10 IMAX (in) "Current Limit Set. The IMAX pin sets the current limit comparator threshold. If the voltage drop across the bottom MOSFET exceeds the magnitude of the voltage at IMAX, the controller goes into current limit. The IMAX pin has (See Datasheet)", 11 INV (in) "Top/Bottom Gate Invert. Pulling this pin above 2V sets the controller to operate in step-up (boost) mode with the TG output driving the synchronous MOSFET and the BG output driving the main switch. Below 1V, the controller (See Datasheet)", 13 RUN/SS (in) "Run/Soft-Start.", 14 GND (power) "Ground Pin.", 15 BGRTN "Bottom Gate Return. This pin connects to the source of the pull-down MOSFET in the BG driver and is normally connected to ground. Connecting a negative supply to this pin allows the synchronous MOSFET’s gate to be pulle(See Datasheet)", 19 BG (out) "Bottom Gate Drive. The BG pin drives the gate of the bottom N-channel synchronous switch MOSFET. This pin swings from BGRTN to DRVCC.", 20 DRVCC (power) "Driver Power Supply Pin. DRVCC provides power to the BG output driver. This pin should be connected to a voltage high enough to fully turn on the external MOSFETs, normally 4.5V to 15V for logic level threshold MOSFETs. (See Datasheet)", 21 VCC (power) "Main Supply Pin. All internal circuits except the output drivers are powered from this pin.", 26 SW "Switch Node Connection to Inductor and Bootstrap Capacitor. Voltage swing at this pin is from a Schottky diode (external) voltage drop below ground to VIN.", 27 TG (out) "Top Gate Drive. The TG pin drives the gate of the top N-channel synchronous switch MOSFET. The TG driver draws power from the BOOST pin and returns to the SW pin, providing true floating drive to the top MOSFET.", 28 BOOST "Top Gate Driver Supply. The BOOST pin supplies power to the floating TG driver. The BOOST pin should be bypassed to SW with a low ESR (X5R or better) 0.1uF ceramic capacitor. An additional fast recovery Schottky diode from (See Datasheet)"
part B pins: 2 NC, 3 NC, 4 NC, 5 NC, 12 NC, 16 NC, 17 NC, 18 NC, 22 NC, 23 NC, 24 NC, 25 NC

## LTC3703EG-5#PBF
designator U?
Synchronous Switching Regulator Controller, 28-pin SOP (G-28), -40 to 85 degC, Pb-Free; Manufacturer: Linear Technology; PartNumber: LTC3703EG-5#PBF; Frequency Sync Range: Up to 600kHz; Number of Outputs: 1; DatasheetVersion: Rev. A; PackageVersion: Jun-10; PackageReference: G-28; PackageDescription: 28-Pin Plastic SSOP, Body 10.2 x 5.3 mm, Pitch 0.65 mm; Supplier 1: Digi-Key; Supplier Part Number 1: LTC3703EG-5#PBF-ND; RoHS: TRUE; Mounting Technology: Surface Mount; ComponentLink1Description: Manufacturer URL; ComponentLink1URL: http://www.linear.com/; ComponentLink2Description: Datasheet; ComponentLink2URL: http://cds.linear.com/docs/en/datasheet/37035fa.pdf; ComponentLink3Description: Package Specification; ComponentLink3URL: http://cds.linear.com/docs/en/packaging/SSOP_28_05-08-1640.pdf
footprint LT-G-28_N (SOP, 28-Leads, Body 10.2x5.3mm, Pitch 0.65mm, IPC Medium Density)
footprint LT-G-28_L (SOP, 28-Leads, Body 10.2x5.3mm, Pitch 0.65mm, IPC High Density)
footprint LT-G-28_M (SOP, 28-Leads, Body 10.2x5.3mm, Pitch 0.65mm, IPC Low Density)
part A pins: 1 VIN (in) "Input Voltage Sense Pin. This pin is connected to the high voltage input of the regulator and is used by the internal feedforward compensation circuitry to improve line regulation. This is not a supply pin.", 6 MODE/SYNC (in) "Pulse Skip Mode Enable/Sync Pin. This multifunction pin provides Pulse Skip Mode enable/ disable control and an external clock input for synchronization of the internal oscillator. Pulling this pin below 0.8V or to an (See Datasheet)", 7 FSET (in) "Frequency Set. A resistor connected to this pin sets the free running frequency of the internal oscillator.", 8 COMP "Loop Compensation. This pin is connected directly to the output of the internal error amplifier. An RC network is used at the COMP pin to compensate the feedback loop for optimal transient response.", 9 FB (in) "Feedback Input. Connect FB through a resistor divider network to VOUT to set the output voltage. Also connect the loop compensation network from COMP to FB.", 10 IMAX (in) "Current Limit Set. The IMAX pin sets the current limit comparator threshold. If the voltage drop across the bottom MOSFET exceeds the magnitude of the voltage at IMAX, the controller goes into current limit. The IMAX pin has (See Datasheet)", 11 INV (in) "Top/Bottom Gate Invert. Pulling this pin above 2V sets the controller to operate in step-up (boost) mode with the TG output driving the synchronous MOSFET and the BG output driving the main switch. Below 1V, the controller (See Datasheet)", 13 RUN/SS (in) "Run/Soft-Start.", 14 GND (power) "Ground Pin.", 15 BGRTN "Bottom Gate Return. This pin connects to the source of the pull-down MOSFET in the BG driver and is normally connected to ground. Connecting a negative supply to this pin allows the synchronous MOSFET’s gate to be pulle(See Datasheet)", 19 BG (out) "Bottom Gate Drive. The BG pin drives the gate of the bottom N-channel synchronous switch MOSFET. This pin swings from BGRTN to DRVCC.", 20 DRVCC (power) "Driver Power Supply Pin. DRVCC provides power to the BG output driver. This pin should be connected to a voltage high enough to fully turn on the external MOSFETs, normally 4.5V to 15V for logic level threshold MOSFETs. (See Datasheet)", 21 VCC (power) "Main Supply Pin. All internal circuits except the output drivers are powered from this pin.", 26 SW "Switch Node Connection to Inductor and Bootstrap Capacitor. Voltage swing at this pin is from a Schottky diode (external) voltage drop below ground to VIN.", 27 TG (out) "Top Gate Drive. The TG pin drives the gate of the top N-channel synchronous switch MOSFET. The TG driver draws power from the BOOST pin and returns to the SW pin, providing true floating drive to the top MOSFET.", 28 BOOST "Top Gate Driver Supply. The BOOST pin supplies power to the floating TG driver. The BOOST pin should be bypassed to SW with a low ESR (X5R or better) 0.1uF ceramic capacitor. An additional fast recovery Schottky diode from (See Datasheet)"
part B pins: 2 NC, 3 NC, 4 NC, 5 NC, 12 NC, 16 NC, 17 NC, 18 NC, 22 NC, 23 NC, 24 NC, 25 NC